# EAGLE library part 74AHC138D (library Zoli2_2015-02-22)
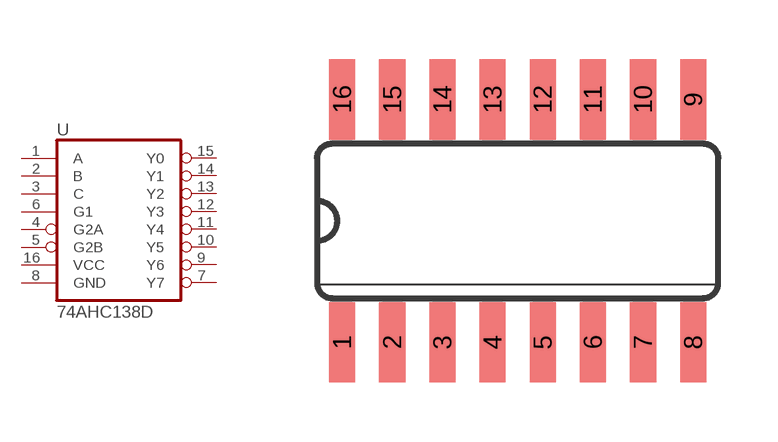
[diagram p2: symbol with the pads of SO16; footprint SO16]

Designator prefix U

## 74AHC138D  [SO16]
1  A  in
2  B  in
3  C  in
4  G2A  in
5  G2B  in
6  G1  in
7  Y7  out
8  GND  pwr
9  Y6  out
10  Y5  out
11  Y4  out
12  Y3  out
13  Y2  out
14  Y1  out
15  Y0  out
16  VCC  pwr

## Footprint SO16 (pad centres in mm)
Small Outline Package .150 SIOC Source: http://www.maxim-ic.com/package_drawings/21-0041B.pdf
smd 0.66 x 2.032: 1 -4.445,-3.073; 2 -3.175,-3.073; 3 -1.905,-3.073; 4 -0.635,-3.073; 5 0.635,-3.073; 6 1.905,-3.073; 7 3.175,-3.073; 8 4.445,-3.073; 9 4.445,3.073; 10 3.175,3.073; 11 1.905,3.073; 12 0.635,3.073; 13 -0.635,3.073; 14 -1.905,3.073; 15 -3.175,3.073; 16 -4.445,3.073